# EAGLE library part LM2623 (library lib_stankus)
TI LM2623 Farnell #8207445
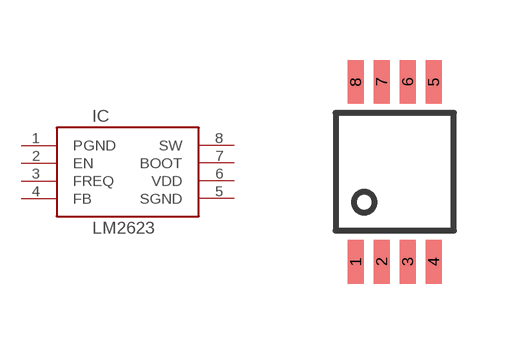
[diagram p87: symbol with the pads of MSOP8; footprint MSOP8]

Designator prefix IC

## LM2623-MSOP8  [MSOP8]
1  PGND  pas
2  EN  pas
3  FREQ  pas
4  FB  pas
5  SGND  pas
6  VDD  pas
7  BOOT  pas
8  SW  pas

## Footprint MSOP8 (pad centres in mm)
MSOP8
smd 0.4 x 1.1: 1 -0.975,-2.25; 2 -0.325,-2.25; 3 0.325,-2.25; 4 0.975,-2.25; 5 0.975,2.25; 6 0.325,2.25; 7 -0.325,2.25; 8 -0.975,2.25